# EAGLE library part 61000811921 (library Wuerth_Elektronik_eiCan_Pin_&_Socked_Headers_v1.3)
WR-PHD 2.54mm SMT Socket Header, 8 Pins
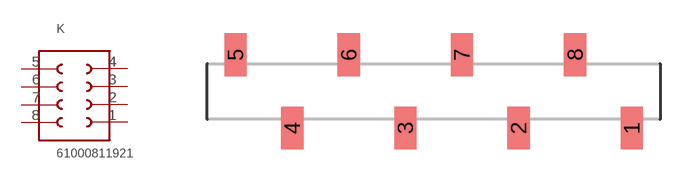
[diagram p233: symbol with the pads of 61000811921; footprint 61000811921]

Designator prefix K

## 61000811921  [61000811921]
1  5  pas
2  6  pas
3  7  pas
4  8  pas
5  1  pas
6  2  pas
7  3  pas
8  4  pas

## Footprint 61000811921 (pad centres in mm)
WR-PHD 2.54mm SMT Socket Header, 8 Pins
smd 1 x 1.91: 1 8.89,-1.645; 2 3.81,-1.645; 3 -1.27,-1.645; 4 -6.35,-1.645; 5 -8.89,1.645; 6 -3.81,1.645; 7 1.27,1.645; 8 6.35,1.645